# Altium schematic symbol library ASV-50.000MHZ-LRS-T.SchLib: 1 symbol
Pins are listed as number, name and electrical type; pins without a type are passive.

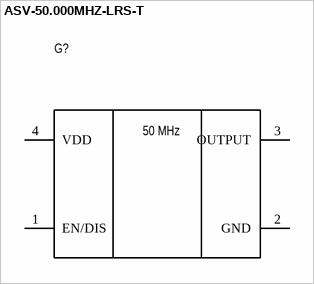
[diagram p0: symbol ASV-50.000MHZ-LRS-T]

## ASV-50.000MHZ-LRS-T
designator G?  (value not drawn)
Crystal or Oscillator; Manufacturer_Name: ABRACON; Manufacturer_Part_Number: ASV-50.000MHZ-LRS-T; Datasheet Link: https://abracon.com/Oscillators/ASV.pdf; Height: 1.8mm; Mouser Part Number: 815-ASV50000MHZLRST; Mouser Price/Stock: https://www.mouser.co.uk/ProductDetail/ABRACON/ASV-50.000MHZ-LRS-T?qs=vmHwEFxEFR%252BcE99Zr2GZkQ%3D%3D
footprint ASV2550000MHZEJT
pins: 1 EN/DIS, 2 GND, 3 OUTPUT, 4 VDD
text: 50 MHz